# Altium footprint library MC34063EBD-TR.PcbLib: 1 footprints
Each footprint in its own frame and in the unit in brackets; x right, y up, seen from the top. Pads: shape width x height; smd on the part's side, far side on the other; paste and mask are expansions set on the pad; w line width, h text height; cw(c..) or ccw(c..) is an arc to the next point about the centre after c.
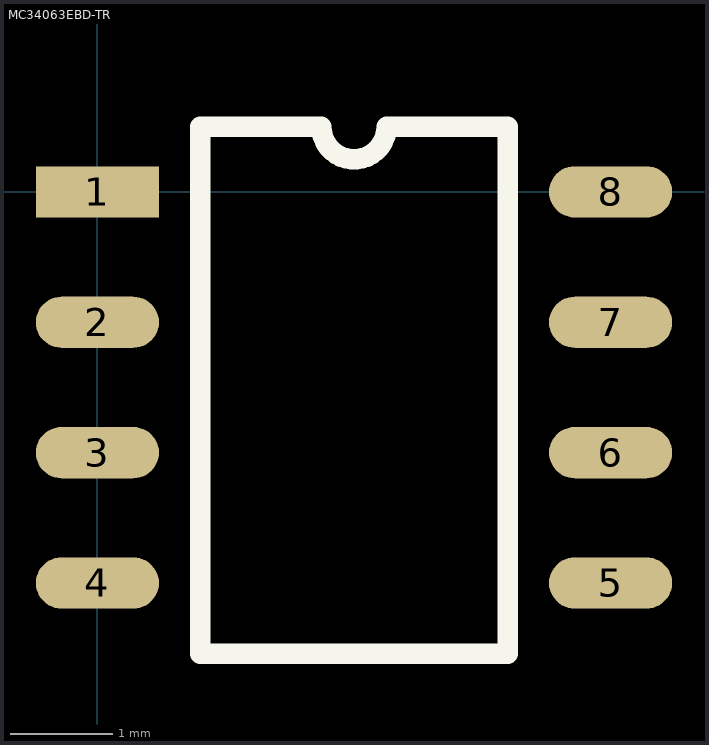
[diagram p0: the footprint, top view; thin cyan lines are the x and y axes]

## MC34063EBD-TR [mm]
pads (8):
  rect 1.2x0.5 smd: 1(0,0)
  oval 1.2x0.5 smd: 2(0,-1.27) 3(0,-2.54) 4(0,-3.81) 5(5,-3.81) 6(5,-2.54) 7(5,-1.27) 8(5,0)
Top Overlay:
  lines w0.2: 1,-4.5 1,-2.2 1,0.635 2.183,0.635 ccw(c2.5,0.635) 2.818,0.635 4,0.635 4,-4.5 1,-4.5
3D body "lm358dt.stp": height 1.53, standoff 0, extent -0.497,-4.35 5.497,0.55